# EAGLE library part SHT21 (library 1AA_Stofer)
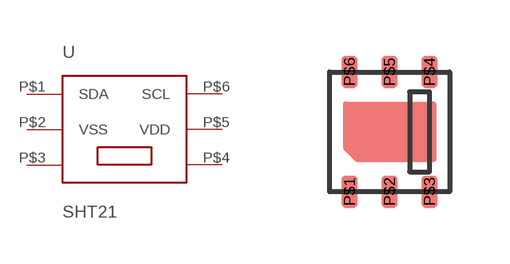
[diagram p31: symbol with the pads of DFN6; footprint DFN6]

Designator prefix -

## SHT21DFN6  [DFN6]
P$1  SDA
P$2  VSS  pwr
P$3  NC  nc
P$4  NC  nc
P$5  VDD  pwr
P$6  SCL

## Footprint DFN6 (pad centres in mm)
smd 0.4 x 0.8: P$1 0,0; P$2 1,0; P$3 2,0; P$4 2,3; P$5 1,3; P$6 0,3